# Altium footprint library PcbLib2.PcbLib: 1 footprints
Each footprint in its own frame and in the unit in brackets; x right, y up, seen from the top. Pads: shape width x height; smd on the part's side, far side on the other; paste and mask are expansions set on the pad; w line width, h text height; cw(c..) or ccw(c..) is an arc to the next point about the centre after c.
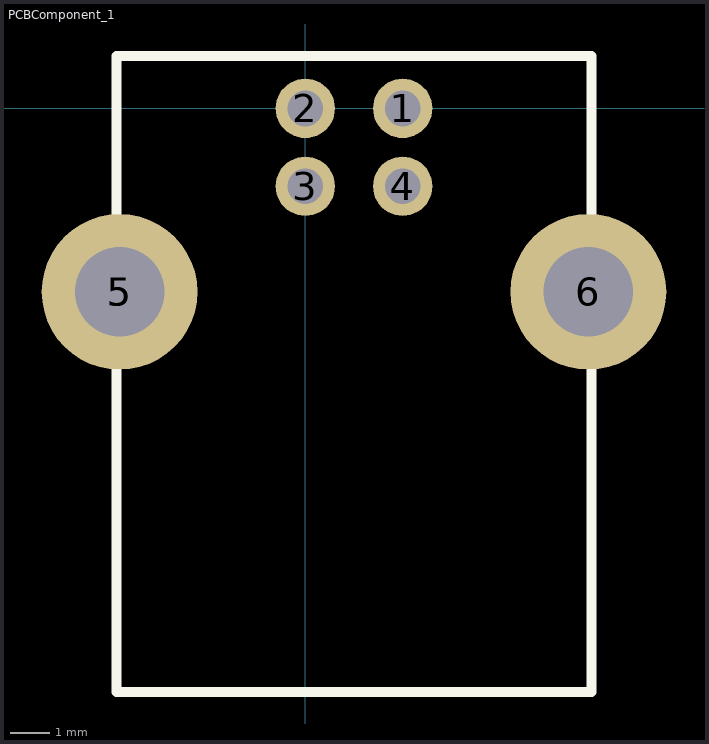
[diagram p0: the footprint, top view; thin cyan lines are the x and y axes]

## PCBComponent_1 [mm]
pads (7):
  round 1.524 hole 0.92: 1(2.5,0) 2(0,0) 3(0,-2) 4(2.5,-2)
  round 4 hole 2.3: 5(-4.77,-4.71) 6(7.27,-4.71)
  round 1.524 hole 0.762: 5(-4.77,-4.71)
Top Overlay:
  lines w0.254: -4.85,-14.99 -4.85,1.35 7.35,1.35 7.35,-14.99 -4.85,-14.99
3D body "14389.stp": height 10.7, standoff -3.95, extent -6.2,-15.1 8.7,1.4